# Altium schematic symbol library mitosis.SchLib: 11 symbols
Pins are listed as number, name and electrical type; pins without a type are passive.

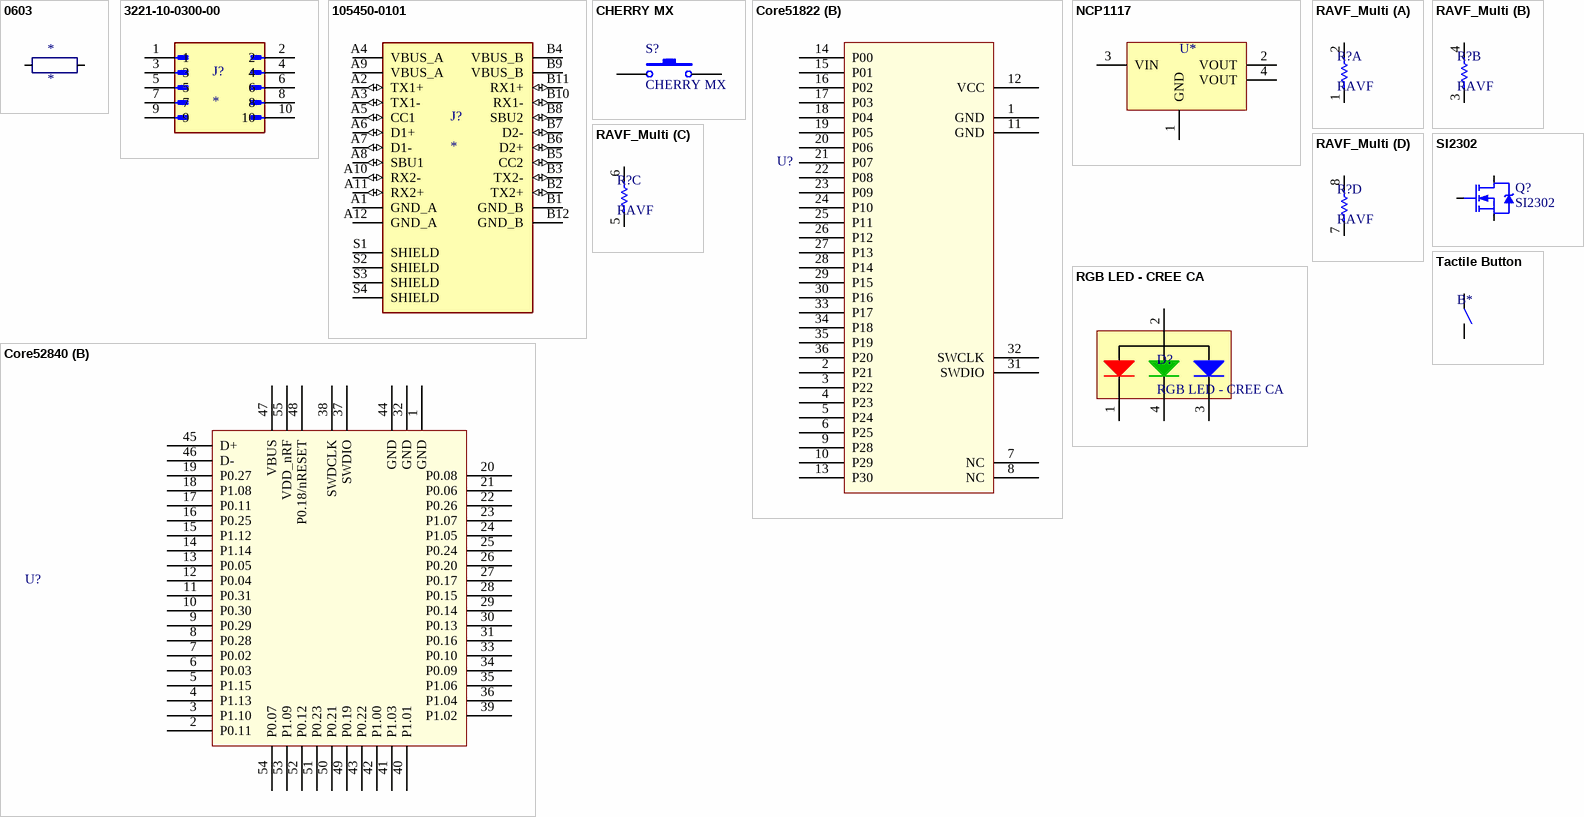
[diagram p0: symbols 0603 to Tactile Button]

## 0603
designator *
footprint RESC2012X06N (Chip Resistor, 2-Leads, Body 2.00x1.25mm, IPC Medium Density)
pins: 1, 2

## 3221-10-0300-00
designator J?
Conn Shrouded Header HDR 10 POS 1.27mm Solder ST SMD T/R; Manufacturer Part Number: 3221-10-0300-00-TR; MP: 3221-10-0300-00; MF: CNC Tech; Package: None; Check_prices: https://www.snapeda.com/parts/3221-10-0300-00/CNC+Tech/view-part/?ref=eda; Value: *; Availability: In Stock; Purchase-URL: https://pricing.snapeda.com/search/part/3221-10-0300-00/?ref=eda; SnapEDA_Link: https://www.snapeda.com/parts/3221-10-0300-00/CNC+Tech/view-part/?ref=snap; Price: None; Supplier: Digi-Key; Supplier Part Number: 1175-2649-6-ND; Manufacturer: CNC Tech; RoHS: No; Category: Connectors; Stock: 84321; Pricing: 1=0.94000, 10=0.79200, 100=0.71100 (USD)
footprint CNC_3221-10-0300-00
pins: 1, 2, 3, 4, 5, 6, 7, 8, 9, 10

## 105450-0101
designator J?
Conn USB 3.1 Type C F 24 POS Solder RA SMD 24 Terminal 1 Port USB 3.1 T/R; Manufacturer: Molex; MP: 105450-0101; Number of Terminals/Pins: 24; Gender: Receptacle; Number of Ports: 1; Mating Cycles: 10000; Shielding: Shielded; Current Rating: 5A; USB Standard: USB 3.1; Pitch: 0.5mm; Package: None; Availability: Unavailable; Value: *; Price: None; Supplier: Newark; Supplier Part Number: 33AC7773; Manufacturer Part Number: 105450-0101; RoHS: Yes; Category: USB Connectors; Stock: 13000; Pricing: 1=1.67000, 1300=1.65000, 2600=1.61000 (USD); Mounting Technology: Surface Mount,Horizontal,Through Hole; Case/Package: 0101; Pins: 24; Contact Plating: Gold; Insulation Color: Black; Contact Material: Copper Alloy; Housing Material: Thermoplastic; Min Operating Temperature: -30°C; Max Operating Temperature: 85°C; Packaging: Tape and Reel; Connector Type: USB; Number of Contacts: 24; Termination: Solder; Orientation: Right Angle; Features: Shielded; Series: -; Length: 8.94mm; RoHS Compliant: Yes; Flammability Rating: UL94 V-0; ComponentLink1URL: http://www.farnell.com/datasheets/2801634.pdf?src-supplier=Farnell; ComponentLink1Description: http://www.farnell.com/datasheets/2801634.pdf?src-supplier=Farnell; ComponentLink2URL: http://www.literature.molex.com/SQLImages/kelmscott/Molex/PDF_Images/987651-4081.PDF?src-supplier=Avnet; ComponentLink2Description: http://www.literature.molex.com/SQLImages/kelmscott/Molex/PDF_Images/987651-4081.PDF?src-supplier=Avnet; ComponentLink3URL: http://www.farnell.com/datasheets/2672741.pdf?src-supplier=Newark; ComponentLink3Description: http://www.farnell.com/datasheets/2672741.pdf?src-supplier=Newark; ComponentLink4URL: http://www.farnell.com/datasheets/2801634.pdf?src-supplier=Newark; ComponentLink4Description: http://www.farnell.com/datasheets/2801634.pdf?src-supplier=Newark; ComponentLink5URL: https://www.molex.com/pdm_docs/ps/PS-105448-001.pdf?src-supplier=Digi-Key; ComponentLink5Description: https://www.molex.com/pdm_docs/ps/PS-105448-001.pdf?src-supplier=Digi-Key; ComponentLink6URL: https://www.molex.com/pdm_docs/sd/1054500101_sd.pdf?src-supplier=Digi-Key; ComponentLink6Description: https://www.molex.com/pdm_docs/sd/1054500101_sd.pdf?src-supplier=Digi-Key; ComponentLink7URL: http://www.farnell.com/datasheets/2801634.pdf?src-supplier=Element14; ComponentLink7Description: http://www.farnell.com/datasheets/2801634.pdf?src-supplier=Element14; ComponentLink8URL: http://www.farnell.com/datasheets/2015275.pdf?src-supplier=Element14; ComponentLink8Description: http://www.farnell.com/datasheets/2015275.pdf?src-supplier=Element14
footprint MOLEX_105450-0101
pins: A1 GND_A (power), A2 TX1+ (io), A3 TX1- (io), A4 VBUS_A (power), A5 CC1 (io), A6 D1+ (io), A7 D1- (io), A8 SBU1 (io), A9 VBUS_A (power), A10 RX2- (io), A11 RX2+ (io), A12 GND_A (power), B1 GND_B (power), B2 TX2+ (io), B3 TX2- (io), B4 VBUS_B (power), B5 CC2 (io), B6 D2+ (io), B7 D2- (io), B8 SBU2 (io), B9 VBUS_B (power), B10 RX1- (io), B11 RX1+ (io), B12 GND_B (power), S1 SHIELD, S2 SHIELD, S3 SHIELD, S4 SHIELD

## CHERRY MX
designator S?
Switch; Published: 24-Mar-1999; LatestRevisionDate: 17-Jul-2002; LatestRevisionNote: Re-released for DXP Platform.; PackageReference: SPST-2; Publisher: Altium Limited; PackageDescription: Switch; 2 Leads
footprint cherry
pins: 1, 2, 3, 4, 5, 6, 7, 8, 9, 10, 11, 12

## Core51822 (B)
designator U?  (value not drawn)
NRF51822 (B)
footprint Core51822 (B)
pins: 1 GND, 2 P21, 3 P22, 4 P23, 5 P24, 6 P25, 7 NC, 8 NC, 9 P28, 10 P29, 11 GND, 12 VCC, 13 P30, 14 P00, 15 P01, 16 P02, 17 P03, 18 P04, 19 P05, 20 P06, 21 P07, 22 P08, 23 P09, 24 P10, 25 P11, 26 P12, 27 P13, 28 P14, 29 P15, 30 P16, 31 SWDIO, 32 SWCLK, 33 P17, 34 P18, 35 P19, 36 P20

## Core52840 (B)
designator U?  (value not drawn)
NRF52840 (B)
footprint Core52840
pins: 1 GND, 2 P0.11, 3 P1.10, 4 P1.13, 5 P1.15, 6 P0.03, 7 P0.02, 8 P0.28, 9 P0.29, 10 P0.30, 11 P0.31, 12 P0.04, 13 P0.05, 14 P1.14, 15 P1.12, 16 P0.25, 17 P0.11, 18 P1.08, 19 P0.27, 20 P0.08, 21 P0.06, 22 P0.26, 23 P1.07, 24 P1.05, 25 P0.24, 26 P0.20, 27 P0.17, 28 P0.15, 29 P0.14, 30 P0.13, 31 P0.16, 32 GND, 33 P0.10, 34 P0.09, 35 P1.06, 36 P1.04, 37 SWDIO, 38 SWDCLK, 39 P1.02, 40 P1.01, 41 P1.03, 42 P1.00, 43 P0.22, 44 GND, 45 D+, 46 D-, 47 VBUS, 48 P0.18/nRESET, 49 P0.19, 50 P0.21, 51 P0.23, 52 P0.12, 53 P1.09, 54 P0.07, 55 VDD_nRF

## NCP1117
designator U*  (value not drawn)
footprint SOT230P700X180-4N (SOT223, 4-Leads, Body 6.50x7.00mm (avg), Pitch 2.30mm, IPC Medium Density)
pins: 1 GND, 2 VOUT, 3 VIN, 4 VOUT

## RAVF_Multi
designator R?, comment RAVF
RAVF164DJT100R
footprint 1206 quad res
part A pins: 1, 2
part B pins: 3 1, 4 2
part C pins: 5 1, 6 2
part D pins: 7 1, 8 2

## RGB LED - CREE CA
designator D?
Tri Colour CA RGB LEDs - CLV1A-FKB
footprint PLCC4-RGBLED
pins: 1 R, 2 CA, 3 B, 4 G

## SI2302
designator Q?
N-Channel Logic MOSFET; Note: Pin 2 is electrically connected to pin 4.; Published: 8-Jun-2000; LatestRevisionDate: 17-Jul-2002; LatestRevisionNote: Re-released for DXP Platform.; DatasheetVersion: PD-9.814; PackageVersion: Feb-1997; PackageReference: TO-220AB; Publisher: Altium Limited; PackageDescription: TO, Thru-Hole, Vertical, Heatsink Mounted; 3 In-Line Leads; Pitch 2.54 mm; ComponentLink1Description: Manufacturer Link; ComponentLink1URL: http://www.irf.com/
footprint SOT-23 (SOT23, 3-Leads, Body 2.92x3.10mm, Pitch 0.95mm, IPC Medium Density)
pins: 1 G, 2 S, 3 D

## Tactile Button
designator B*  (value not drawn)
footprint TACTILE BUTTON
pins: 1, 2